# Altium integrated library Altium_Coil_Inductor.IntLib: 108 symbols (part 1 of 3)
Pins are listed as number, name and electrical type; pins without a type are passive.

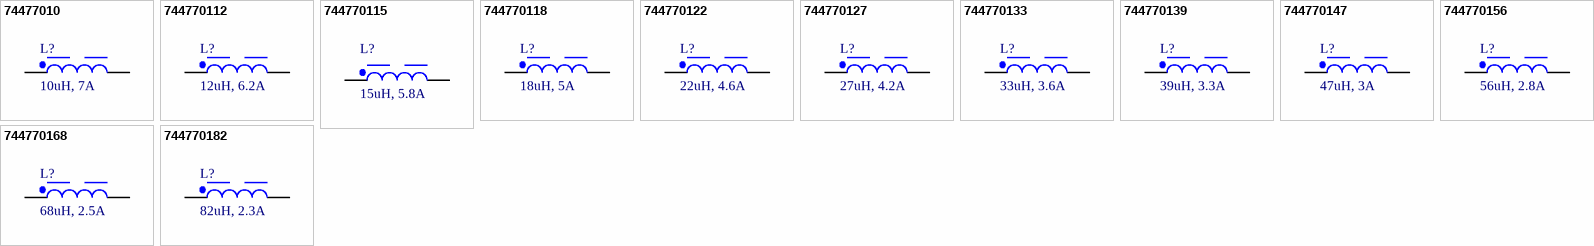
[diagram p0: symbols 74477010 to 744770182]

## 74477010
designator L?, comment 10uH, 7A
WE-PD SMT Power Inductor, size 1280, 10uH, 7A, 20mOhm; Manufacturer Part Number: 74477010; Manufacturer: Wurth Elektronik; Case/Size Code: 1280; DC Resistance: 15mOhm; Saturation Current: 7.5A; Self Resonant Frequency: 18MHz; Type: Standard; Category: Power Inductors; Match Code: WE-PD; ComponentLink1Description: Datasheet; ComponentLink1URL: https://www.we-online.com/redexpert/spec/74477010?ad; Mount: Surface Mount; Operating Temperature Max: 125°C; Operating Temperature Min: -40°C; Packaging: Tape and Reel; Length: 12mm; Width: 12mm; Height: 8mm; DC Resistance Max: 20mOhm; Inductance: 10uH; Rated Current: 7A; Supplier 1 URL: https://www.mouser.com/ProductDetail/Wurth-Elektronik/74477010?qs=E%2F%2FhvbtCqpN9eEwYoxClfg%3D%3D&utm_source=mouser-refine-download&utm_medium=file&utm_campaign=74477010&utm_content=Wurth-Elektronik; Supplier 2 URL: https://www.digikey.com/en/products/detail/w%C3%BCrth-elektronik/74477010/1638628; Supplier 3 URL: https://www.thegioiic.com/cdrh127-cuon-cam-dan-smd-1280-100-10uh-7-8a; Value: 10uH, 7A; LCSC Part #: N/A; Supplier 1: Mouser; Supplier 1 Part Number: 710-74477010; Supplier 2: Digi-Key; Supplier 2 Part Number: 732-1223-2-ND; Supplier 3: thegioiic; Supplier 3 Part Number: N/A
footprint WE-PD_1280
simulation model 1280_74477010_10u
pins: 1, 2

## 744770112
designator L?, comment 12uH, 6.2A
WE-PD SMT Power Inductor, size 1280, 12uH, 6.2A, 21mOhm; Manufacturer Part Number: 744770112; Manufacturer: Wurth Elektronik; Case/Size Code: 1280; DC Resistance: 16mOhm; Saturation Current: 6.5A; Self Resonant Frequency: 16MHz; Type: Standard; Category: Power Inductors; Match Code: WE-PD; ComponentLink1Description: Datasheet; ComponentLink1URL: https://www.we-online.com/redexpert/spec/744770112?ad; Mount: Surface Mount; Operating Temperature Max: 125°C; Operating Temperature Min: -40°C; Packaging: Tape and Reel; Length: 12mm; Width: 12mm; Height: 8mm; DC Resistance Max: 21mOhm; Inductance: 12uH; Rated Current: 6.2A; Supplier 1 URL: https://www.mouser.com/ProductDetail/Wurth-Elektronik/744770112?qs=E%2F%2FhvbtCqpOJhaQEzaGKow%3D%3D&utm_source=mouser-refine-download&utm_medium=file&utm_campaign=744770112&utm_content=Wurth-Elektronik; Supplier 2 URL: https://www.digikey.com/en/products/detail/w%C3%BCrth-elektronik/744770112/1638629; Supplier 3 URL: https://www.thegioiic.com/cdrh127-cuon-cam-dan-smd-1280-120-12uh-7-5a; Value: 12uH, 6.2A; LCSC Part #: N/A; Supplier 1: Mouser; Supplier 1 Part Number: 710-744770112; Supplier 2: Digi-Key; Supplier 2 Part Number: 732-1224-2-ND; Supplier 3: thegioiic; Supplier 3 Part Number: N/A
footprint WE-PD_1280
simulation model 1280_744770112_12u
pins: 1, 2

## 744770115
designator L?, comment 15uH, 5.8A
WE-PD SMT Power Inductor, size 1280, 15uH, 5.8A, 23mOhm; Manufacturer Part Number: 744770115; Manufacturer: Wurth Elektronik; Case/Size Code: 1280; DC Resistance: 18mOhm; Saturation Current: 6A; Self Resonant Frequency: 14.5MHz; Type: Standard; Category: Power Inductors; Match Code: WE-PD; ComponentLink1Description: Datasheet; ComponentLink1URL: https://www.we-online.com/redexpert/spec/744770115?ad; Mount: Surface Mount; Operating Temperature Max: 125°C; Operating Temperature Min: -40°C; Packaging: Tape and Reel; Length: 12mm; Width: 12mm; Height: 8mm; DC Resistance Max: 23mOhm; Inductance: 15uH; Rated Current: 5.8A; Supplier 1 URL: https://www.mouser.com/ProductDetail/Wurth-Elektronik/744770115?qs=E%2F%2FhvbtCqpM85OsQhMxYHw%3D%3D&utm_source=mouser-refine-download&utm_medium=file&utm_campaign=744770115&utm_content=Wurth-Elektronik; Supplier 2 URL: https://www.digikey.com/en/products/detail/w%C3%BCrth-elektronik/744770115/1638630; Supplier 3 URL: https://www.thegioiic.com/cdrh127-cuon-cam-dan-smd-1280-150-15uh-7-1a; Value: 15uH, 5.8A; LCSC Part #: N/A; Supplier 1: Mouser; Supplier 1 Part Number: 710-744770115; Supplier 2: Digi-Key; Supplier 2 Part Number: 732-1225-2-ND; Supplier 3: thegioiic; Supplier 3 Part Number: N/A
footprint WE-PD_1280
simulation model 1280_744770115_15u
pins: 1, 2

## 744770118
designator L?, comment 18uH, 5A
WE-PD SMT Power Inductor, size 1280, 18uH, 5A, 32mOhm; Manufacturer Part Number: 744770118; Manufacturer: Wurth Elektronik; Case/Size Code: 1280; DC Resistance: 25mOhm; Saturation Current: 5.4A; Self Resonant Frequency: 13.2MHz; Type: Standard; Category: Power Inductors; Match Code: WE-PD; ComponentLink1Description: Datasheet; ComponentLink1URL: https://www.we-online.com/redexpert/spec/744770118?ad; Mount: Surface Mount; Operating Temperature Max: 125°C; Operating Temperature Min: -40°C; Packaging: Tape and Reel; Length: 12mm; Width: 12mm; Height: 8mm; DC Resistance Max: 32mOhm; Inductance: 18uH; Rated Current: 5A; Supplier 1 URL: https://www.mouser.com/ProductDetail/Wurth-Elektronik/744770118?qs=E%2F%2FhvbtCqpMjsE8jVdqxTg%3D%3D&utm_source=mouser-refine-download&utm_medium=file&utm_campaign=744770118&utm_content=Wurth-Elektronik; Supplier 2 URL: https://www.digikey.com/en/products/detail/w%C3%BCrth-elektronik/744770118/1638631; Supplier 3 URL: https://www.thegioiic.com/cdrh127-cuon-cam-dan-smd-1280-180-18uh-6-6a; Value: 18uH, 5A; LCSC Part #: N/A; Supplier 1: Mouser; Supplier 1 Part Number: 710-744770118; Supplier 2: Digi-Key; Supplier 2 Part Number: 732-1226-2-ND; Supplier 3: thegioiic; Supplier 3 Part Number: N/A
footprint WE-PD_1280
simulation model 1280_744770118_18u
pins: 1, 2

## 744770122
designator L?, comment 22uH, 4.6A
WE-PD SMT Power Inductor, size 1280, 22uH, 4.6A, 35mOhm; Manufacturer Part Number: 744770122; Manufacturer: Wurth Elektronik; Case/Size Code: 1280; DC Resistance: 29mOhm; Saturation Current: 5A; Self Resonant Frequency: 12MHz; Type: Standard; Category: Power Inductors; Match Code: WE-PD; ComponentLink1Description: Datasheet; ComponentLink1URL: https://www.we-online.com/redexpert/spec/744770122?ad; Mount: Surface Mount; Operating Temperature Max: 125°C; Operating Temperature Min: -40°C; Packaging: Tape and Reel; Length: 12mm; Width: 12mm; Height: 8mm; DC Resistance Max: 35mOhm; Inductance: 22uH; Rated Current: 4.6A; Supplier 1 URL: https://www.mouser.com/ProductDetail/Wurth-Elektronik/744770122?qs=E%2F%2FhvbtCqpMCCo%252BOKEdKOA%3D%3D&utm_source=mouser-refine-download&utm_medium=file&utm_campaign=744770122&utm_content=Wurth-Elektronik; Supplier 2 URL: https://www.digikey.com/en/products/detail/w%C3%BCrth-elektronik/744770122/1638632; Supplier 3 URL: https://www.thegioiic.com/cdrh127-cuon-cam-dan-smd-1280-220-22uh-6-3a; Value: 22uH, 4.6A; LCSC Part #: N/A; Supplier 1: Mouser; Supplier 1 Part Number: 710-744770122; Supplier 2: Digi-Key; Supplier 2 Part Number: 732-1227-2-ND; Supplier 3: thegioiic; Supplier 3 Part Number: N/A
footprint WE-PD_1280
simulation model 1280_744770122_22u
pins: 1, 2

## 744770127
designator L?, comment 27uH, 4.2A
WE-PD SMT Power Inductor, size 1280, 27uH, 4.2A, 38mOhm; Manufacturer Part Number: 744770127; Manufacturer: Wurth Elektronik; Case/Size Code: 1280; DC Resistance: 31mOhm; Saturation Current: 4.3A; Self Resonant Frequency: 10MHz; Type: Standard; Category: Power Inductors; Match Code: WE-PD; ComponentLink1Description: Datasheet; ComponentLink1URL: https://www.we-online.com/redexpert/spec/744770127?ad; Mount: Surface Mount; Operating Temperature Max: 125°C; Operating Temperature Min: -40°C; Packaging: Tape and Reel; Length: 12mm; Width: 12mm; Height: 8mm; DC Resistance Max: 38mOhm; Inductance: 27uH; Rated Current: 4.2A; Supplier 1 URL: https://www.mouser.com/ProductDetail/Wurth-Elektronik/744770127?qs=E%2F%2FhvbtCqpO8LDc2teDyXQ%3D%3D&utm_source=mouser-refine-download&utm_medium=file&utm_campaign=744770127&utm_content=Wurth-Elektronik; Supplier 2 URL: https://www.digikey.com/en/products/detail/w%C3%BCrth-elektronik/744770127/1638633; Supplier 3 URL: https://www.thegioiic.com/cdrh127-cuon-cam-dan-smd-1280-270-27uh-5-7a; Value: 27uH, 4.2A; LCSC Part #: N/A; Supplier 1: Mouser; Supplier 1 Part Number: 710-744770127; Supplier 2: Digi-Key; Supplier 2 Part Number: 732-1228-2-ND; Supplier 3: thegioiic; Supplier 3 Part Number: N/A
footprint WE-PD_1280
simulation model 1280_744770127_27u
pins: 1, 2

## 744770133
designator L?, comment 33uH, 3.6A
WE-PD SMT Power Inductor, size 1280, 33uH, 3.6A, 53mOhm; Manufacturer Part Number: 744770133; Manufacturer: Wurth Elektronik; Case/Size Code: 1280; DC Resistance: 44mOhm; Saturation Current: 3.9A; Self Resonant Frequency: 8.5MHz; Type: Standard; Category: Power Inductors; Match Code: WE-PD; ComponentLink1Description: Datasheet; ComponentLink1URL: https://www.we-online.com/redexpert/spec/744770133?ad; Mount: Surface Mount; Operating Temperature Max: 125°C; Operating Temperature Min: -40°C; Packaging: Tape and Reel; Length: 12mm; Width: 12mm; Height: 8mm; DC Resistance Max: 53mOhm; Inductance: 33uH; Rated Current: 3.6A; Supplier 1 URL: https://www.mouser.com/ProductDetail/Wurth-Elektronik/744770133?qs=E%2F%2FhvbtCqpPKkGJl8TxFXw%3D%3D&utm_source=mouser-refine-download&utm_medium=file&utm_campaign=744770133&utm_content=Wurth-Elektronik; Supplier 2 URL: https://www.digikey.com/en/products/detail/w%C3%BCrth-elektronik/744770133/1638634; Supplier 3 URL: https://www.thegioiic.com/cdrh127-cuon-cam-dan-smd-1280-330-33uh-4-2a; Value: 33uH, 3.6A; LCSC Part #: C2924828; Supplier 1: Mouser; Supplier 1 Part Number: 710-744770133; Supplier 2: Digi-Key; Supplier 2 Part Number: 732-1229-2-ND; Supplier 3: thegioiic; Supplier 3 Part Number: N/A
footprint WE-PD_1280
simulation model 1280_744770133_33u
pins: 1, 2

## 744770139
designator L?, comment 39uH, 3.3A
WE-PD SMT Power Inductor, size 1280, 39uH, 3.3A, 56mOhm; Manufacturer Part Number: 744770139; Manufacturer: Wurth Elektronik; Case/Size Code: 1280; DC Resistance: 47mOhm; Saturation Current: 3.6A; Self Resonant Frequency: 8.2MHz; Type: Standard; Category: Power Inductors; Match Code: WE-PD; ComponentLink1Description: Datasheet; ComponentLink1URL: https://www.we-online.com/redexpert/spec/744770139?ad; Mount: Surface Mount; Operating Temperature Max: 125°C; Operating Temperature Min: -40°C; Packaging: Tape and Reel; Length: 12mm; Width: 12mm; Height: 8mm; DC Resistance Max: 56mOhm; Inductance: 39uH; Rated Current: 3.3A; Supplier 1 URL: https://www.mouser.com/ProductDetail/Wurth-Elektronik/744770139?qs=E%2F%2FhvbtCqpNi16tK84wUHQ%3D%3D&utm_source=mouser-refine-download&utm_medium=file&utm_campaign=744770139&utm_content=Wurth-Elektronik; Supplier 2 URL: https://www.digikey.com/en/products/detail/w%C3%BCrth-elektronik/744770139/1638635; Supplier 3 URL: https://www.thegioiic.com/cdrh127-cuon-cam-dan-smd-1280-390-39uh-4-5a; Value: 39uH, 3.3A; LCSC Part #: N/A; Supplier 1: Mouser; Supplier 1 Part Number: 710-744770139; Supplier 2: Digi-Key; Supplier 2 Part Number: 732-1230-2-ND; Supplier 3: thegioiic; Supplier 3 Part Number: N/A
footprint WE-PD_1280
simulation model 1280_744770139_39u
pins: 1, 2

## 744770147
designator L?, comment 47uH, 3A
WE-PD SMT Power Inductor, size 1280, 47uH, 3A, 64mOhm; Manufacturer Part Number: 744770147; Manufacturer: Wurth Elektronik; Case/Size Code: 1280; DC Resistance: 53mOhm; Saturation Current: 3.3A; Self Resonant Frequency: 7.9MHz; Type: Standard; Category: Power Inductors; Match Code: WE-PD; ComponentLink1Description: Datasheet; ComponentLink1URL: https://www.we-online.com/redexpert/spec/744770147?ad; Mount: Surface Mount; Operating Temperature Max: 125°C; Operating Temperature Min: -40°C; Packaging: Tape and Reel; Length: 12mm; Width: 12mm; Height: 8mm; DC Resistance Max: 64mOhm; Inductance: 47uH; Rated Current: 3A; Supplier 1 URL: https://www.mouser.com/ProductDetail/Wurth-Elektronik/744770147?qs=E%2F%2FhvbtCqpOiGvqyq%252BELzg%3D%3D&utm_source=mouser-refine-download&utm_medium=file&utm_campaign=744770147&utm_content=Wurth-Elektronik; Supplier 2 URL: https://www.digikey.com/en/products/detail/w%C3%BCrth-elektronik/744770147/1638636; Supplier 3 URL: https://www.thegioiic.com/cdrh127-cuon-cam-dan-smd-1280-470-47uh-3-25a; Value: 47uH, 3A; LCSC Part #: N/A; Supplier 1: Mouser; Supplier 1 Part Number: 710-744770147; Supplier 2: Digi-Key; Supplier 2 Part Number: 732-1231-2-ND; Supplier 3: thegioiic; Supplier 3 Part Number: N/A
footprint WE-PD_1280
simulation model 1280_744770147_47u
pins: 1, 2

## 744770156
designator L?, comment 56uH, 2.8A
WE-PD SMT Power Inductor, size 1280, 56uH, 2.8A, 71mOhm; Manufacturer Part Number: 744770156; Manufacturer: Wurth Elektronik; Case/Size Code: 1280; DC Resistance: 59mOhm; Saturation Current: 3A; Self Resonant Frequency: 7.1MHz; Type: Standard; Category: Power Inductors; Match Code: WE-PD; ComponentLink1Description: Datasheet; ComponentLink1URL: https://www.we-online.com/redexpert/spec/744770156?ad; Mount: Surface Mount; Operating Temperature Max: 125°C; Operating Temperature Min: -40°C; Packaging: Tape and Reel; Length: 12mm; Width: 12mm; Height: 8mm; DC Resistance Max: 71mOhm; Inductance: 56uH; Rated Current: 2.8A; Supplier 1 URL: https://www.mouser.com/ProductDetail/Wurth-Elektronik/744770156?qs=E%2F%2FhvbtCqpNroL9ZoOQUWg%3D%3D&utm_source=mouser-refine-download&utm_medium=file&utm_campaign=744770156&utm_content=Wurth-Elektronik; Supplier 2 URL: https://www.digikey.com/en/products/detail/w%C3%BCrth-elektronik/744770156/1638637; Supplier 3 URL: https://www.thegioiic.com/cdrh127-cuon-cam-dan-smd-1280-560-56uh-3-6a; Value: 56uH, 2.8A; LCSC Part #: N/A; Supplier 1: Mouser; Supplier 1 Part Number: 710-744770156; Supplier 2: Digi-Key; Supplier 2 Part Number: 732-1232-2-ND; Supplier 3: thegioiic; Supplier 3 Part Number: N/A
footprint WE-PD_1280
simulation model 1280_744770156_56u
pins: 1, 2

## 744770168
designator L?, comment 68uH, 2.5A
WE-PD SMT Power Inductor, size 1280, 68uH, 2.5A, 90mOhm; Manufacturer Part Number: 744770168; Manufacturer: Wurth Elektronik; Case/Size Code: 1280; DC Resistance: 76mOhm; Saturation Current: 2.7A; Self Resonant Frequency: 6.4MHz; Type: Standard; Category: Power Inductors; Match Code: WE-PD; ComponentLink1Description: Datasheet; ComponentLink1URL: https://www.we-online.com/redexpert/spec/744770168?ad; Mount: Surface Mount; Operating Temperature Max: 125°C; Operating Temperature Min: -40°C; Packaging: Tape and Reel; Length: 12mm; Width: 12mm; Height: 8mm; DC Resistance Max: 90mOhm; Inductance: 68uH; Rated Current: 2.5A; Supplier 1 URL: https://www.mouser.com/ProductDetail/Wurth-Elektronik/744770168?qs=E%2F%2FhvbtCqpPwpKkBv2vMpA%3D%3D&utm_source=mouser-refine-download&utm_medium=file&utm_campaign=744770168&utm_content=Wurth-Elektronik; Supplier 2 URL: https://www.digikey.com/en/products/detail/w%C3%BCrth-elektronik/744770168/1638638; Supplier 3 URL: https://www.thegioiic.com/cdrh127-cuon-cam-dan-smd-1280-680-68uh-3-2a; Value: 68uH, 2.5A; LCSC Part #: N/A; Supplier 1: Mouser; Supplier 1 Part Number: 710-744770168; Supplier 2: Digi-Key; Supplier 2 Part Number: 732-1233-2-ND; Supplier 3: thegioiic; Supplier 3 Part Number: N/A
footprint WE-PD_1280
simulation model 1280_744770168_68u
pins: 1, 2

## 744770182
designator L?, comment 82uH, 2.3A
WE-PD SMT Power Inductor, size 1280, 82uH, 2.3A, 105mOhm; Manufacturer Part Number: 744770182; Manufacturer: Wurth Elektronik; Case/Size Code: 1280; DC Resistance: 86mOhm; Saturation Current: 2.5A; Self Resonant Frequency: 3.5MHz; Type: Standard; Category: Power Inductors; Match Code: WE-PD; ComponentLink1Description: Datasheet; ComponentLink1URL: https://www.we-online.com/redexpert/spec/744770182?ad; Mount: Surface Mount; Operating Temperature Max: 125°C; Operating Temperature Min: -40°C; Packaging: Tape and Reel; Length: 12mm; Width: 12mm; Height: 8mm; DC Resistance Max: 105mOhm; Inductance: 82uH; Rated Current: 2.3A; Supplier 1 URL: https://www.mouser.com/ProductDetail/Wurth-Elektronik/744770182?qs=E%2F%2FhvbtCqpMetle%2FMtY%2FbA%3D%3D&utm_source=mouser-refine-download&utm_medium=file&utm_campaign=744770182&utm_content=Wurth-Elektronik; Supplier 2 URL: https://www.digikey.com/en/products/detail/w%C3%BCrth-elektronik/744770182/1638639; Supplier 3 URL: https://www.thegioiic.com/cdrh127-cuon-cam-dan-smd-1280-820-82uh-2-95a; Value: 82uH, 2.3A; LCSC Part #: N/A; Supplier 1: Mouser; Supplier 1 Part Number: 710-744770182; Supplier 2: Digi-Key; Supplier 2 Part Number: 732-1234-2-ND; Supplier 3: thegioiic; Supplier 3 Part Number: N/A
footprint WE-PD_1280
simulation model 1280_744770182_82u
pins: 1, 2


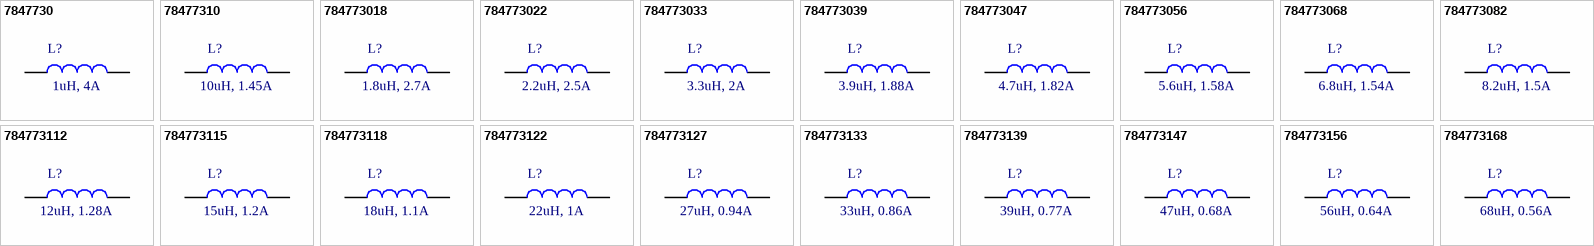
[diagram p1: symbols 7847730 to 784773168]

## 7847730
designator L?, comment 1uH, 4A
WE-PD2A SMT Power Inductor, size 4532, 1uH, 4A; Manufacturer Part Number: 7847730; Manufacturer: Wurth Elektronik; DC Resistance max.: 0.049Ohm; Saturation Current: 5.72A; Self Resonant Frequency: 110MHz; DC Resistance typ.: 0.014Ohm; Rated Voltage: 80VDC; ComponentLink1Description: Datasheet; ComponentLink1URL: https://www.we-online.com/catalog/datasheet/7847730.pdf; Published Date: May 2020; Rated Current: 4A; Inductance: 1uH; Operating Temperature: -40 to +125degC; Packaging: Tape and Reel; Size: 4532; Supplier 2 URL: https://www.digikey.com/en/products/detail/w%C3%BCrth-elektronik/7847730/5168772; Supplier 1 URL: https://www.mouser.vn/ProductDetail/Wurth-Elektronik/7847730?qs=sBf%2Fb4nBSlde5F9DDjxYmQ%3D%3D; Supplier 3 URL: https://www.thegioiic.com/cuon-cam-dan-smd-cd43-4532-1r0-1uh-2-7a; Value: 1uH, 4A; LCSC Part #: N/A; Supplier 1: Mouser; Supplier 1 Part Number: 710-7847730; Supplier 2: Digi-Key; Supplier 2 Part Number: 732-6803-2-ND; Supplier 3: thegioiic; Supplier 3 Part Number: N/A; Mount: SMD/SMT
footprint WE-PD2A_4532
pins: 1, 2

## 78477310
designator L?, comment 10uH, 1.45A
WE-PD2A SMT Power Inductor, size 4532, 10uH, 1.45A; Manufacturer Part Number: 78477310; Manufacturer: Wurth Elektronik; DC Resistance max.: 0.182Ohm; Saturation Current: 1.74A; Self Resonant Frequency: 30MHz; DC Resistance typ.: 0.118Ohm; Rated Voltage: 80VDC; ComponentLink1Description: Datasheet; ComponentLink1URL: https://www.we-online.com/catalog/datasheet/78477310.pdf; Published Date: May 2020; Rated Current: 1.45A; Inductance: 10uH; Operating Temperature: -40 to +125degC; Packaging: Tape and Reel; Size: 4532; Supplier 2 URL: https://www.digikey.com/en/products/detail/w%C3%BCrth-elektronik/78477310/5168778?s=N4IgTCBcDaIOwA4Asc4GYCMAGEBdAvkA; Supplier 1 URL: https://www.mouser.vn/ProductDetail/Wurth-Elektronik/78477310?qs=sBf%2Fb4nBSldyYvbSID7ftA%3D%3D; Supplier 3 URL: https://www.thegioiic.com/cuon-cam-dan-smd-cd43-4532-100-10uh-1-04a; Value: 10uH, 1.45A; LCSC Part #: N/A; Supplier 1: Mouser; Supplier 1 Part Number: 710-78477310; Supplier 2: Digi-Key; Supplier 2 Part Number: 732-6812-2-ND; Supplier 3: thegioiic; Supplier 3 Part Number: N/A; Mount: SMD/SMT
footprint WE-PD2A_4532
pins: 1, 2

## 784773018
designator L?, comment 1.8uH, 2.7A
WE-PD2A SMT Power Inductor, size 4532, 1.8uH, 2.7A; Manufacturer Part Number: 784773018; Manufacturer: Wurth Elektronik; DC Resistance max.: 0.064Ohm; Saturation Current: 3.6A; Self Resonant Frequency: 85MHz; DC Resistance typ.: 0.028Ohm; Rated Voltage: 80VDC; ComponentLink1Description: Datasheet; ComponentLink1URL: https://www.we-online.com/catalog/datasheet/784773018.pdf; Published Date: May 2020; Rated Current: 2.7A; Inductance: 1.8uH; Operating Temperature: -40 to +125degC; Packaging: Tape and Reel; Size: 4532; Supplier 2 URL: https://www.digikey.com/en/products/detail/w%C3%BCrth-elektronik/784773018/5168841?s=N4IgTCBcDaIOwA4Asc4GYAMBGBIC6AvkA; Supplier 1 URL: https://www.mouser.vn/ProductDetail/Wurth-Elektronik/784773018?qs=sBf%2Fb4nBSleQ5H1IVXBHSg%3D%3D; Supplier 3 URL: N/A; Value: 1.8uH, 2.7A; LCSC Part #: N/A; Supplier 1: Mouser; Supplier 1 Part Number: 710-784773018; Supplier 2: Digi-Key; Supplier 2 Part Number: 732-6804-2-ND; Supplier 3: thegioiic; Supplier 3 Part Number: N/A; Mount: SMD/SMT
footprint WE-PD2A_4532
pins: 1, 2

## 784773022
designator L?, comment 2.2uH, 2.5A
WE-PD2A SMT Power Inductor, size 4532, 2.2uH, 2.5A; Manufacturer Part Number: 784773022; Manufacturer: Wurth Elektronik; DC Resistance max.: 0.071Ohm; Saturation Current: 3.38A; Self Resonant Frequency: 74MHz; DC Resistance typ.: 0.034Ohm; Rated Voltage: 80VDC; ComponentLink1Description: Datasheet; ComponentLink1URL: https://www.we-online.com/catalog/datasheet/784773022.pdf; Published Date: May 2020; Rated Current: 2.5A; Inductance: 2.2uH; Operating Temperature: -40 to +125degC; Packaging: Tape and Reel; Size: 4532; Supplier 2 URL: https://www.digikey.com/en/products/detail/w%C3%BCrth-elektronik/784773022/5168842?s=N4IgTCBcDaIOwA4Asc4GYAMYIF0C%2BQA; Supplier 1 URL: https://www.mouser.vn/ProductDetail/Wurth-Elektronik/784773022?qs=sBf%2Fb4nBSlcBBrrMBQmuMg%3D%3D; Supplier 3 URL: https://www.thegioiic.com/cuon-cam-dan-smd-cd43-4532-2r2-2-2uh-2-25a; Value: 2.2uH, 2.5A; LCSC Part #: N/A; Supplier 1: Mouser; Supplier 1 Part Number: 710-784773022; Supplier 2: Digi-Key; Supplier 2 Part Number: 732-6805-2-ND; Supplier 3: thegioiic; Supplier 3 Part Number: N/A; Mount: SMD/SMT
footprint WE-PD2A_4532
pins: 1, 2

## 784773033
designator L?, comment 3.3uH, 2A
WE-PD2A SMT Power Inductor, size 4532, 3.3uH, 2A; Manufacturer Part Number: 784773033; Manufacturer: Wurth Elektronik; DC Resistance max.: 0.086Ohm; Saturation Current: 2.88A; Self Resonant Frequency: 55MHz; DC Resistance typ.: 0.041Ohm; Rated Voltage: 80VDC; ComponentLink1Description: Datasheet; ComponentLink1URL: https://www.we-online.com/catalog/datasheet/784773033.pdf; Published Date: May 2020; Rated Current: 2A; Inductance: 3.3uH; Operating Temperature: -40 to +125degC; Packaging: Tape and Reel; Size: 4532; Supplier 2 URL: https://www.digikey.com/en/products/detail/w%C3%BCrth-elektronik/784773033/5168843?s=N4IgTCBcDaIOwA4Asc4GYAMa0gLoF8g; Supplier 1 URL: https://www.mouser.vn/ProductDetail/Wurth-Elektronik/784773033?qs=sBf%2Fb4nBSlcLzNIjutVkew%3D%3D; Supplier 3 URL: https://www.thegioiic.com/cuon-cam-dan-smd-cd43-4532-3r3-3-3uh-2a; Value: 3.3uH, 2A; LCSC Part #: N/A; Supplier 1: Mouser; Supplier 1 Part Number: 710-784773033; Supplier 2: Digi-Key; Supplier 2 Part Number: 732-6806-2-ND; Supplier 3: thegioiic; Supplier 3 Part Number: N/A; Mount: SMD/SMT
footprint WE-PD2A_4532
pins: 1, 2

## 784773039
designator L?, comment 3.9uH, 1.88A
WE-PD2A SMT Power Inductor, size 4532, 3.9uH, 1.88A; Manufacturer Part Number: 784773039; Manufacturer: Wurth Elektronik; DC Resistance max.: 0.094Ohm; Saturation Current: 2.57A; Self Resonant Frequency: 50MHz; DC Resistance typ.: 0.054Ohm; Rated Voltage: 80VDC; ComponentLink1Description: Datasheet; ComponentLink1URL: https://www.we-online.com/catalog/datasheet/784773039.pdf; Published Date: May 2020; Rated Current: 1.88A; Inductance: 3.9uH; Operating Temperature: -40 to +125degC; Packaging: Tape and Reel; Size: 4532; Supplier 2 URL: https://www.digikey.com/en/products/detail/w%C3%BCrth-elektronik/784773039/5168844?s=N4IgTCBcDaIOwA4Asc4GYAMaCcIC6AvkA; Supplier 1 URL: https://www.mouser.vn/ProductDetail/Wurth-Elektronik/784773039?qs=sBf%2Fb4nBSlfKtooI5th99Q%3D%3D; Supplier 3 URL: N/A; Value: 3.9uH, 1.88A; LCSC Part #: N/A; Supplier 1: Mouser; Supplier 1 Part Number: 710-784773039; Supplier 2: Digi-Key; Supplier 2 Part Number: 732-6807-2-ND; Supplier 3: thegioiic; Supplier 3 Part Number: N/A; Mount: SMD/SMT
footprint WE-PD2A_4532
pins: 1, 2

## 784773047
designator L?, comment 4.7uH, 1.82A
WE-PD2A SMT Power Inductor, size 4532, 4.7uH, 1.82A; Manufacturer Part Number: 784773047; Manufacturer: Wurth Elektronik; DC Resistance max.: 0.11Ohm; Saturation Current: 2.46A; Self Resonant Frequency: 45MHz; DC Resistance typ.: 0.059Ohm; Rated Voltage: 80VDC; ComponentLink1Description: Datasheet; ComponentLink1URL: https://www.we-online.com/catalog/datasheet/784773047.pdf; Published Date: May 2020; Rated Current: 1.82A; Inductance: 4.7uH; Operating Temperature: -40 to +125degC; Packaging: Tape and Reel; Size: 4532; Supplier 2 URL: https://www.digikey.com/en/products/detail/w%C3%BCrth-elektronik/784773047/5168845?s=N4IgTCBcDaIOwA4Asc4GYAMKQF0C%2BQA; Supplier 1 URL: https://www.mouser.vn/ProductDetail/Wurth-Elektronik/784773047?qs=sBf%2Fb4nBSlexMu59FZ%252B%2F%2Fw%3D%3D; Supplier 3 URL: https://www.thegioiic.com/cuon-cam-dan-smd-cd43-4532-4r7-4-7uh-1-62a; Value: 4.7uH, 1.82A; LCSC Part #: N/A; Supplier 1: Mouser; Supplier 1 Part Number: 710-784773047; Supplier 2: Digi-Key; Supplier 2 Part Number: 732-6808-2-ND; Supplier 3: thegioiic; Supplier 3 Part Number: N/A; Mount: SMD/SMT
footprint WE-PD2A_4532
pins: 1, 2

## 784773056
designator L?, comment 5.6uH, 1.58A
WE-PD2A SMT Power Inductor, size 4532, 5.6uH, 1.58A; Manufacturer Part Number: 784773056; Manufacturer: Wurth Elektronik; DC Resistance max.: 0.126Ohm; Saturation Current: 2.43A; Self Resonant Frequency: 40MHz; DC Resistance typ.: 0.069Ohm; Rated Voltage: 80VDC; ComponentLink1Description: Datasheet; ComponentLink1URL: https://www.we-online.com/catalog/datasheet/784773056.pdf; Published Date: May 2020; Rated Current: 1.58A; Inductance: 5.6uH; Operating Temperature: -40 to +125degC; Packaging: Tape and Reel; Size: 4532; Supplier 2 URL: https://www.digikey.com/en/products/detail/w%C3%BCrth-elektronik/784773056/5168846?s=N4IgTCBcDaIOwA4Asc4GYAMBWAbCAugL5A; Supplier 1 URL: https://www.mouser.vn/ProductDetail/Wurth-Elektronik/784773056?qs=sBf%2Fb4nBSlc8abp2k0EE6g%3D%3D; Supplier 3 URL: N/A; Value: 5.6uH, 1.58A; LCSC Part #: N/A; Supplier 1: Mouser; Supplier 1 Part Number: 710-784773056; Supplier 2: Digi-Key; Supplier 2 Part Number: 732-6809-2-ND; Supplier 3: thegioiic; Supplier 3 Part Number: N/A; Mount: SMD/SMT
footprint WE-PD2A_4532
pins: 1, 2

## 784773068
designator L?, comment 6.8uH, 1.54A
WE-PD2A SMT Power Inductor, size 4532, 6.8uH, 1.54A; Manufacturer Part Number: 784773068; Manufacturer: Wurth Elektronik; DC Resistance max.: 0.131Ohm; Saturation Current: 2.1A; Self Resonant Frequency: 35MHz; DC Resistance typ.: 0.076Ohm; Rated Voltage: 80VDC; ComponentLink1Description: Datasheet; ComponentLink1URL: https://www.we-online.com/catalog/datasheet/784773068.pdf; Published Date: May 2020; Rated Current: 1.54A; Inductance: 6.8uH; Operating Temperature: -40 to +125degC; Packaging: Tape and Reel; Size: 4532; Supplier 2 URL: https://www.digikey.com/en/products/detail/w%C3%BCrth-elektronik/784773068/5168847?s=N4IgTCBcDaIOwA4Asc4GYAMA2BIC6AvkA; Supplier 1 URL: https://www.mouser.vn/ProductDetail/Wurth-Elektronik/784773068?qs=sBf%2Fb4nBSlcnXmzECz8Epw%3D%3D; Supplier 3 URL: https://www.thegioiic.com/cuon-cam-dan-smd-cd43-4532-6r8-6-8uh-1-43a; Value: 6.8uH, 1.54A; LCSC Part #: N/A; Supplier 1: Mouser; Supplier 1 Part Number: 710-784773068; Supplier 2: Digi-Key; Supplier 2 Part Number: 732-6810-2-ND; Supplier 3: thegioiic; Supplier 3 Part Number: N/A; Mount: SMD/SMT
footprint WE-PD2A_4532
pins: 1, 2

## 784773082
designator L?, comment 8.2uH, 1.5A
WE-PD2A SMT Power Inductor, size 4532, 8.2uH, 1.5A; Manufacturer Part Number: 784773082; Manufacturer: Wurth Elektronik; DC Resistance max.: 0.146Ohm; Saturation Current: 1.8A; Self Resonant Frequency: 30MHz; DC Resistance typ.: 0.116Ohm; Rated Voltage: 80VDC; ComponentLink1Description: Datasheet; ComponentLink1URL: https://www.we-online.com/catalog/datasheet/784773082.pdf; Published Date: May 2020; Rated Current: 1.5A; Inductance: 8.2uH; Operating Temperature: -40 to +125degC; Packaging: Tape and Reel; Size: 4532; Supplier 2 URL: https://www.digikey.com/en/products/detail/w%C3%BCrth-elektronik/784773082/5168848?s=N4IgTCBcDaIOwA4Asc4GYAMCIF0C%2BQA; Supplier 1 URL: https://www.mouser.vn/ProductDetail/Wurth-Elektronik/784773082?qs=sBf%2Fb4nBSlcCjuVMP%252BH0Qg%3D%3D; Supplier 3 URL: N/A; Value: 8.2uH, 1.5A; LCSC Part #: N/A; Supplier 1: Mouser; Supplier 1 Part Number: 710-784773082; Supplier 2: Digi-Key; Supplier 2 Part Number: 732-6811-2-ND; Supplier 3: thegioiic; Supplier 3 Part Number: N/A; Mount: SMD/SMT
footprint WE-PD2A_4532
pins: 1, 2

## 784773112
designator L?, comment 12uH, 1.28A
WE-PD2A SMT Power Inductor, size 4532, 12uH, 1.28A; Manufacturer Part Number: 784773112; Manufacturer: Wurth Elektronik; DC Resistance max.: 0.21Ohm; Saturation Current: 1.62A; Self Resonant Frequency: 30MHz; DC Resistance typ.: 0.156Ohm; Rated Voltage: 80VDC; ComponentLink1Description: Datasheet; ComponentLink1URL: https://www.we-online.com/catalog/datasheet/784773112.pdf; Published Date: May 2020; Rated Current: 1.28A; Inductance: 12uH; Operating Temperature: -40 to +125degC; Packaging: Tape and Reel; Size: 4532; Supplier 2 URL: https://www.digikey.com/en/products/detail/w%C3%BCrth-elektronik/784773112/5168849?s=N4IgTCBcDaIOwA4Asc4GYCMGIF0C%2BQA; Supplier 1 URL: https://www.mouser.vn/ProductDetail/Wurth-Elektronik/784773112?qs=sBf%2Fb4nBSlcUWypdFvrQSg%3D%3D; Supplier 3 URL: N/A; Value: 12uH, 1.28A; LCSC Part #: N/A; Supplier 1: Mouser; Supplier 1 Part Number: 710-784773112; Supplier 2: Digi-Key; Supplier 2 Part Number: 732-6813-2-ND; Supplier 3: thegioiic; Supplier 3 Part Number: N/A; Mount: SMD/SMT
footprint WE-PD2A_4532
pins: 1, 2

## 784773115
designator L?, comment 15uH, 1.2A
WE-PD2A SMT Power Inductor, size 4532, 15uH, 1.2A; Manufacturer Part Number: 784773115; Manufacturer: Wurth Elektronik; DC Resistance max.: 0.235Ohm; Saturation Current: 1.46A; Self Resonant Frequency: 27MHz; DC Resistance typ.: 0.204Ohm; Rated Voltage: 80VDC; ComponentLink1Description: Datasheet; ComponentLink1URL: https://www.we-online.com/catalog/datasheet/784773115.pdf; Published Date: May 2020; Rated Current: 1.2A; Inductance: 15uH; Operating Temperature: -40 to +125degC; Packaging: Tape and Reel; Size: 4532; Supplier 2 URL: https://www.digikey.com/en/products/detail/w%C3%BCrth-elektronik/784773115/5168850?s=N4IgTCBcDaIOwA4Asc4GYCMGCsIC6AvkA; Supplier 1 URL: https://www.mouser.vn/ProductDetail/Wurth-Elektronik/784773115?qs=sBf%2Fb4nBSlf%252Be0gXfR1Slw%3D%3D; Supplier 3 URL: N/A; Value: 15uH, 1.2A; LCSC Part #: N/A; Supplier 1: Mouser; Supplier 1 Part Number: 710-784773115; Supplier 2: Digi-Key; Supplier 2 Part Number: 732-6814-2-ND; Supplier 3: thegioiic; Supplier 3 Part Number: N/A; Mount: SMD/SMT
footprint WE-PD2A_4532
pins: 1, 2

## 784773118
designator L?, comment 18uH, 1.1A
WE-PD2A SMT Power Inductor, size 4532, 18uH, 1.1A; Manufacturer Part Number: 784773118; Manufacturer: Wurth Elektronik; DC Resistance max.: 0.338Ohm; Saturation Current: 1.29A; Self Resonant Frequency: 22MHz; DC Resistance typ.: 0.225Ohm; Rated Voltage: 80VDC; ComponentLink1Description: Datasheet; ComponentLink1URL: https://www.we-online.com/catalog/datasheet/784773118.pdf; Published Date: May 2020; Rated Current: 1.1A; Inductance: 18uH; Operating Temperature: -40 to +125degC; Packaging: Tape and Reel; Size: 4532; Supplier 2 URL: https://www.digikey.com/en/products/detail/w%C3%BCrth-elektronik/784773118/5168851?s=N4IgTCBcDaIOwA4Asc4GYCMGEgLoF8g; Supplier 1 URL: https://www.mouser.vn/ProductDetail/Wurth-Elektronik/784773118?qs=sBf%2Fb4nBSldB4lq3T1V5tg%3D%3D; Supplier 3 URL: N/A; Value: 18uH, 1.1A; LCSC Part #: N/A; Supplier 1: Mouser; Supplier 1 Part Number: 710-784773118; Supplier 2: Digi-Key; Supplier 2 Part Number: 732-6815-2-ND; Supplier 3: thegioiic; Supplier 3 Part Number: N/A; Mount: SMD/SMT
footprint WE-PD2A_4532
pins: 1, 2

## 784773122
designator L?, comment 22uH, 1A
WE-PD2A SMT Power Inductor, size 4532, 22uH, 1A; Manufacturer Part Number: 784773122; Manufacturer: Wurth Elektronik; DC Resistance max.: 0.37Ohm; Saturation Current: 1.22A; Self Resonant Frequency: 20MHz; DC Resistance typ.: 0.261Ohm; Rated Voltage: 80VDC; ComponentLink1Description: Datasheet; ComponentLink1URL: https://www.we-online.com/catalog/datasheet/784773122.pdf; Published Date: May 2020; Rated Current: 1A; Inductance: 22uH; Operating Temperature: -40 to +125degC; Packaging: Tape and Reel; Size: 4532; Supplier 2 URL: https://www.digikey.com/en/products/detail/w%C3%BCrth-elektronik/784773122/5168852?s=N4IgTCBcDaIOwA4Asc4GYCMYIF0C%2BQA; Supplier 1 URL: https://www.mouser.vn/ProductDetail/Wurth-Elektronik/784773122?qs=sBf%2Fb4nBSlcvmW779TjjSg%3D%3D; Supplier 3 URL: N/A; Value: 22uH, 1A; LCSC Part #: N/A; Supplier 1: Mouser; Supplier 1 Part Number: 710-784773122; Supplier 2: Digi-Key; Supplier 2 Part Number: 732-6816-2-ND; Supplier 3: thegioiic; Supplier 3 Part Number: N/A; Mount: SMD/SMT
footprint WE-PD2A_4532
pins: 1, 2

## 784773127
designator L?, comment 27uH, 0.94A
WE-PD2A SMT Power Inductor, size 4532, 27uH, 0.94A; Manufacturer Part Number: 784773127; Manufacturer: Wurth Elektronik; DC Resistance max.: 0.522Ohm; Saturation Current: 1A; Self Resonant Frequency: 17MHz; DC Resistance typ.: 0.328Ohm; Rated Voltage: 80VDC; ComponentLink1Description: Datasheet; ComponentLink1URL: https://www.we-online.com/catalog/datasheet/784773127.pdf; Published Date: May 2020; Rated Current: 0.94A; Inductance: 27uH; Operating Temperature: -40 to +125degC; Packaging: Tape and Reel; Size: 4532; Supplier 2 URL: https://www.digikey.com/en/products/detail/w%C3%BCrth-elektronik/784773127/5168853?s=N4IgTCBcDaIOwA4Asc4GYCMY4gLoF8g; Supplier 1 URL: https://www.mouser.vn/ProductDetail/Wurth-Elektronik/784773127?qs=sBf%2Fb4nBSldFrOzMksw2nQ%3D%3D; Supplier 3 URL: N/A; Value: 27uH, 0.94A; LCSC Part #: N/A; Supplier 1: Mouser; Supplier 1 Part Number: 710-784773127; Supplier 2: Digi-Key; Supplier 2 Part Number: 732-6817-2-ND; Supplier 3: thegioiic; Supplier 3 Part Number: N/A; Mount: SMD/SMT
footprint WE-PD2A_4532
pins: 1, 2

## 784773133
designator L?, comment 33uH, 0.86A
WE-PD2A SMT Power Inductor, size 4532, 33uH, 0.86A; Manufacturer Part Number: 784773133; Manufacturer: Wurth Elektronik; DC Resistance max.: 0.54Ohm; Saturation Current: 0.9A; Self Resonant Frequency: 16MHz; DC Resistance typ.: 0.37Ohm; Rated Voltage: 80VDC; ComponentLink1Description: Datasheet; ComponentLink1URL: https://www.we-online.com/catalog/datasheet/784773133.pdf; Published Date: May 2020; Rated Current: 0.86A; Inductance: 33uH; Operating Temperature: -40 to +125degC; Packaging: Tape and Reel; Size: 4532; Supplier 2 URL: https://www.digikey.com/en/products/detail/w%C3%BCrth-elektronik/784773133/5168854?s=N4IgTCBcDaIOwA4Asc4GYCMa0gLoF8g; Supplier 1 URL: https://www.mouser.vn/ProductDetail/Wurth-Elektronik/784773133?qs=sBf%2Fb4nBSldLFXm7e5FBgg%3D%3D; Supplier 3 URL: N/A; Value: 33uH, 0.86A; LCSC Part #: N/A; Supplier 1: Mouser; Supplier 1 Part Number: 710-784773133; Supplier 2: Digi-Key; Supplier 2 Part Number: 732-6818-2-ND; Supplier 3: thegioiic; Supplier 3 Part Number: N/A; Mount: SMD/SMT
footprint WE-PD2A_4532 (SMD Power Inductor, body 4.5x4mm)
pins: 1, 2

## 784773139
designator L?, comment 39uH, 0.77A
WE-PD2A SMT Power Inductor, size 4532, 39uH, 0.77A; Manufacturer Part Number: 784773139; Manufacturer: Wurth Elektronik; DC Resistance max.: 0.587Ohm; Saturation Current: 0.87A; Self Resonant Frequency: 15MHz; DC Resistance typ.: 0.418Ohm; Rated Voltage: 80VDC; ComponentLink1Description: Datasheet; ComponentLink1URL: https://www.we-online.com/catalog/datasheet/784773139.pdf; Published Date: May 2020; Rated Current: 0.77A; Inductance: 39uH; Operating Temperature: -40 to +125degC; Packaging: Tape and Reel; Size: 4532; Supplier 2 URL: https://www.digikey.com/en/products/detail/w%C3%BCrth-elektronik/784773139/5168855?s=N4IgTCBcDaIOwA4Asc4GYCMaCcIC6AvkA; Supplier 1 URL: https://www.mouser.vn/ProductDetail/Wurth-Elektronik/784773139?qs=sBf%2Fb4nBSleGlFolV50CBA%3D%3D; Supplier 3 URL: N/A; Value: 39uH, 0.77A; LCSC Part #: N/A; Supplier 1: Mouser; Supplier 1 Part Number: 710-784773139; Supplier 2: Digi-Key; Supplier 2 Part Number: 732-6819-2-ND; Supplier 3: thegioiic; Supplier 3 Part Number: N/A; Mount: SMD/SMT
footprint WE-PD2A_4532
pins: 1, 2

## 784773147
designator L?, comment 47uH, 0.68A
WE-PD2A SMT Power Inductor, size 4532, 47uH, 0.68A; Manufacturer Part Number: 784773147; Manufacturer: Wurth Elektronik; DC Resistance max.: 0.844Ohm; Saturation Current: 0.77A; Self Resonant Frequency: 12MHz; DC Resistance typ.: 0.523Ohm; Rated Voltage: 80VDC; ComponentLink1Description: Datasheet; ComponentLink1URL: https://www.we-online.com/catalog/datasheet/784773147.pdf; Published Date: May 2020; Rated Current: 0.68A; Inductance: 47uH; Operating Temperature: -40 to +125degC; Packaging: Tape and Reel; Size: 4532; Supplier 2 URL: https://www.digikey.com/en/products/detail/w%C3%BCrth-elektronik/784773147/5168856?s=N4IgTCBcDaIOwA4Asc4GYCMKQF0C%2BQA; Supplier 1 URL: https://www.mouser.vn/ProductDetail/Wurth-Elektronik/784773147?qs=sBf%2Fb4nBSle9kgx4I0M%252BSA%3D%3D; Supplier 3 URL: N/A; Value: 47uH, 0.68A; LCSC Part #: N/A; Supplier 1: Mouser; Supplier 1 Part Number: 710-784773147; Supplier 2: Digi-Key; Supplier 2 Part Number: 732-6820-2-ND; Supplier 3: thegioiic; Supplier 3 Part Number: N/A; Mount: SMD/SMT
footprint WE-PD2A_4532
pins: 1, 2

## 784773156
designator L?, comment 56uH, 0.64A
WE-PD2A SMT Power Inductor, size 4532, 56uH, 0.64A; Manufacturer Part Number: 784773156; Manufacturer: Wurth Elektronik; DC Resistance max.: 0.937Ohm; Saturation Current: 0.75A; Self Resonant Frequency: 12MHz; DC Resistance typ.: 0.714Ohm; Rated Voltage: 80VDC; ComponentLink1Description: Datasheet; ComponentLink1URL: https://www.we-online.com/catalog/datasheet/784773156.pdf; Published Date: May 2020; Rated Current: 0.64A; Inductance: 56uH; Operating Temperature: -40 to +125degC; Packaging: Tape and Reel; Size: 4532; Supplier 2 URL: https://www.digikey.com/en/products/detail/w%C3%BCrth-elektronik/784773156/5168857?s=N4IgTCBcDaIOwA4Asc4GYCMBWAbCAugL5A; Supplier 1 URL: https://www.mouser.vn/ProductDetail/Wurth-Elektronik/784773156?qs=sBf%2Fb4nBSleyP3AnWTna%252BQ%3D%3D; Supplier 3 URL: N/A; Value: 56uH, 0.64A; LCSC Part #: N/A; Supplier 1: Mouser; Supplier 1 Part Number: 710-784773156; Supplier 2: Digi-Key; Supplier 2 Part Number: 732-6821-2-ND; Supplier 3: thegioiic; Supplier 3 Part Number: N/A; Mount: SMD/SMT
footprint WE-PD2A_4532
pins: 1, 2

## 784773168
designator L?, comment 68uH, 0.56A
WE-PD2A SMT Power Inductor, size 4532, 68uH, 0.56A; Manufacturer Part Number: 784773168; Manufacturer: Wurth Elektronik; DC Resistance max.: 1.117Ohm; Saturation Current: 0.68A; Self Resonant Frequency: 11MHz; DC Resistance typ.: 0.754Ohm; Rated Voltage: 80VDC; ComponentLink1Description: Datasheet; ComponentLink1URL: https://www.we-online.com/catalog/datasheet/784773168.pdf; Published Date: May 2020; Rated Current: 0.56A; Inductance: 68uH; Operating Temperature: -40 to +125degC; Packaging: Tape and Reel; Size: 4532; Supplier 2 URL: https://www.digikey.com/en/products/detail/w%C3%BCrth-elektronik/784773168/5168858?s=N4IgTCBcDaIOwA4Asc4GYCMA2BIC6AvkA; Supplier 1 URL: https://www.mouser.vn/ProductDetail/Wurth-Elektronik/784773168?qs=sBf%2Fb4nBSle9WMcPwYFP2g%3D%3D; Supplier 3 URL: N/A; Value: 68uH, 0.56A; LCSC Part #: N/A; Supplier 1: Mouser; Supplier 1 Part Number: 710-784773168; Supplier 2: Digi-Key; Supplier 2 Part Number: 732-6822-2-ND; Supplier 3: thegioiic; Supplier 3 Part Number: N/A; Mount: SMD/SMT
footprint WE-PD2A_4532
pins: 1, 2


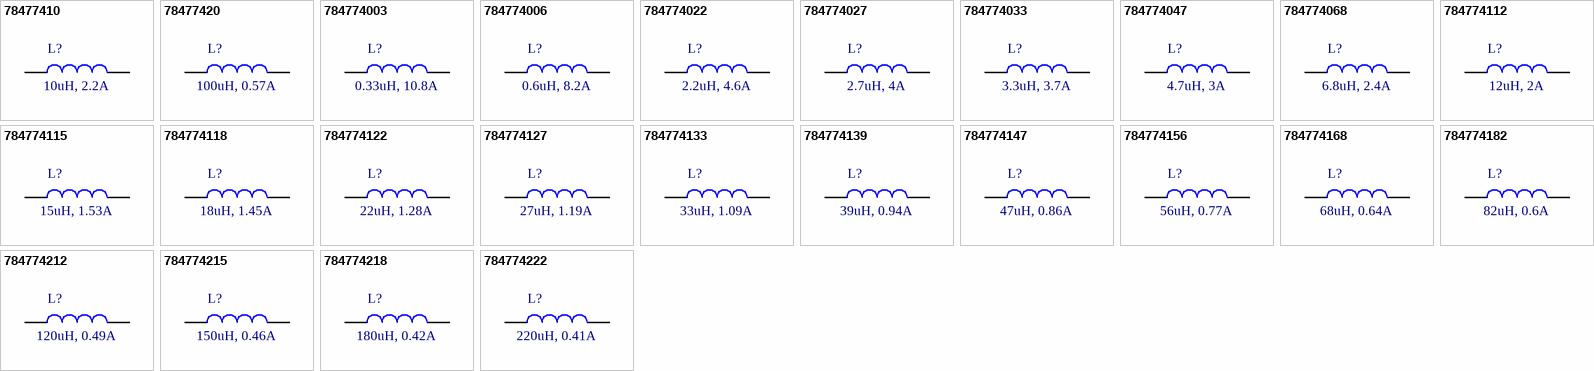
[diagram p2: symbols 78477410 to 784774222]

## 78477410
designator L?, comment 10uH, 2.2A
WE-PD2A SMT Power Inductor, size 5848, 10uH, 2.2A; Manufacturer Part Number: 78477410; Manufacturer: Wurth Elektronik; DC Resistance max.: 0.1Ohm; Saturation Current: 2.5A; Self Resonant Frequency: 26MHz; DC Resistance typ.: 0.078Ohm; Rated Voltage: 80VDC; ComponentLink1Description: Datasheet; ComponentLink1URL: https://www.we-online.com/catalog/datasheet/784774156.pdf; Published Date: May 2020; Rated Current: 2.2A; Inductance: 10uH; Operating Temperature: -40 to +125degC; Packaging: Tape and Reel; Size: 5848; Supplier 2 URL: https://www.digikey.com/en/products/detail/w%C3%BCrth-elektronik/78477410/5168779?s=N4IgTCBcDaIOwA4Asc5IIwAYQF0C%2BQA; Supplier 1 URL: https://www.mouser.vn/ProductDetail/Wurth-Elektronik/78477410?qs=sBf%2Fb4nBSldlX6CYaJExDg%3D%3D; Supplier 3 URL: https://www.thegioiic.com/cuon-cam-dan-smd-cd53-5852-100-10uh-1-8a; Value: 10uH, 2.2A; LCSC Part #: N/A; Mount: SMD/SMT; Supplier 1: Mouser; Supplier 1 Part Number: 710-78477410; Supplier 2: Digi-Key; Supplier 2 Part Number: 732-6830-2-ND; Supplier 3: thegioiic; Supplier 3 Part Number: N/A
footprint WE-PD2A_5848
pins: 1, 2

## 78477420
designator L?, comment 100uH, 0.57A
WE-PD2A SMT Power Inductor, size 5848, 100uH, 0.57A; Manufacturer Part Number: 78477420; Manufacturer: Wurth Elektronik; DC Resistance max.: 0.65Ohm; Saturation Current: 0.68A; Self Resonant Frequency: 7MHz; DC Resistance typ.: 0.51Ohm; Rated Voltage: 80VDC; ComponentLink1Description: Datasheet; ComponentLink1URL: https://www.we-online.com/catalog/datasheet/784774156.pdf; Published Date: May 2020; Rated Current: 0.57A; Inductance: 100uH; Operating Temperature: -40 to +125degC; Packaging: Tape and Reel; Size: 5848; Supplier 2 URL: https://www.digikey.com/en/products/detail/w%C3%BCrth-elektronik/78477420/5168780?s=N4IgTCBcDaIOwA4Asc5LABhAXQL5A; Supplier 1 URL: https://www.mouser.vn/ProductDetail/Wurth-Elektronik/78477420?qs=sBf%2Fb4nBSlcdU46whVu6%2FA%3D%3D; Supplier 3 URL: https://www.thegioiic.com/cuon-cam-dan-smd-cd53-5852-101-100uh-4-5a; Value: 100uH, 0.57A; LCSC Part #: N/A; Mount: SMD/SMT; Supplier 1: Mouser; Supplier 1 Part Number: 710-78477420; Supplier 2: Digi-Key; Supplier 2 Part Number: 732-6842-2-ND; Supplier 3: thegioiic; Supplier 3 Part Number: N/A
footprint WE-PD2A_5848
pins: 1, 2

## 784774003
designator L?, comment 0.33uH, 10.8A
WE-PD2A SMT Power Inductor, size 5848, 0.33uH, 10.8A; Manufacturer Part Number: 784774003; Manufacturer: Wurth Elektronik; DC Resistance max.: 0.008Ohm; Saturation Current: 15.3A; Self Resonant Frequency: 295MHz; DC Resistance typ.: 0.006Ohm; Rated Voltage: 80VDC; ComponentLink1Description: Datasheet; ComponentLink1URL: https://www.we-online.com/catalog/datasheet/784774156.pdf; Published Date: May 2020; Rated Current: 10.8A; Inductance: 0.33uH; Operating Temperature: -40 to +125degC; Packaging: Tape and Reel; Size: 5848; Supplier 2 URL: https://www.digikey.com/en/products/detail/w%C3%BCrth-elektronik/784774003/5168859?s=N4IgTCBcDaIOwA4Asc5IAzoMwgLoF8g; Supplier 1 URL: https://www.mouser.vn/ProductDetail/Wurth-Elektronik/784774003?qs=sBf%2Fb4nBSlfsz1qgrFR5cw%3D%3D; Supplier 3 URL: N/A; Value: 0.33uH, 10.8A; LCSC Part #: N/A; Mount: SMD/SMT; Supplier 1: Mouser; Supplier 1 Part Number: 710-784774003; Supplier 2: Digi-Key; Supplier 2 Part Number: 732-6823-2-ND; Supplier 3: thegioiic; Supplier 3 Part Number: N/A
footprint WE-PD2A_5848 (SMD Power Inductor, body 5.8x5.2mm)
pins: 1, 2

## 784774006
designator L?, comment 0.6uH, 8.2A
WE-PD2A SMT Power Inductor, size 5848, 0.6uH, 8.2A; Manufacturer Part Number: 784774006; Manufacturer: Wurth Elektronik; DC Resistance max.: 0.018Ohm; Saturation Current: 13.5A; Self Resonant Frequency: 210MHz; DC Resistance typ.: 0.009Ohm; Rated Voltage: 80VDC; ComponentLink1Description: Datasheet; ComponentLink1URL: https://www.we-online.com/catalog/datasheet/784774156.pdf; Published Date: May 2020; Rated Current: 8.2A; Inductance: 0.6uH; Operating Temperature: -40 to +125degC; Packaging: Tape and Reel; Size: 5848; Supplier 2 URL: https://www.digikey.com/en/products/detail/w%C3%BCrth-elektronik/784774006/5168860?s=N4IgTCBcDaIOwA4Asc5IAzoGwgLoF8g; Supplier 1 URL: https://www.mouser.vn/ProductDetail/Wurth-Elektronik/784774006?qs=sBf%2Fb4nBSld9EioUyJB1Lg%3D%3D; Supplier 3 URL: N/A; Value: 0.6uH, 8.2A; LCSC Part #: N/A; Mount: SMD/SMT; Supplier 1: Mouser; Supplier 1 Part Number: 710-784774006; Supplier 2: Digi-Key; Supplier 2 Part Number: 732-6824-2-ND; Supplier 3: thegioiic; Supplier 3 Part Number: N/A
footprint WE-PD2A_5848
pins: 1, 2

## 784774022
designator L?, comment 2.2uH, 4.6A
WE-PD2A SMT Power Inductor, size 5848, 2.2uH, 4.6A; Manufacturer Part Number: 784774022; Manufacturer: Wurth Elektronik; DC Resistance max.: 0.041Ohm; Saturation Current: 8.2A; Self Resonant Frequency: 54MHz; DC Resistance typ.: 0.026Ohm; Rated Voltage: 80VDC; ComponentLink1Description: Datasheet; ComponentLink1URL: https://www.we-online.com/catalog/datasheet/784774156.pdf; Published Date: May 2020; Rated Current: 4.6A; Inductance: 2.2uH; Operating Temperature: -40 to +125degC; Packaging: Tape and Reel; Size: 5848; Supplier 2 URL: https://www.digikey.com/en/products/detail/w%C3%BCrth-elektronik/784774022/5168861?s=N4IgTCBcDaIOwA4Asc5IAxggXQL5A; Supplier 1 URL: https://www.mouser.vn/ProductDetail/Wurth-Elektronik/784774022?qs=sBf%2Fb4nBSlfFQ39MxtOnjA%3D%3D; Supplier 3 URL: https://www.thegioiic.com/cuon-cam-dan-smd-cd53-5852-2r2-2-2uh-3-5a; Value: 2.2uH, 4.6A; LCSC Part #: N/A; Mount: SMD/SMT; Supplier 1: Mouser; Supplier 1 Part Number: 710-784774022; Supplier 2: Digi-Key; Supplier 2 Part Number: 732-6825-2-ND; Supplier 3: thegioiic; Supplier 3 Part Number: N/A
footprint WE-PD2A_5848
pins: 1, 2

## 784774027
designator L?, comment 2.7uH, 4A
WE-PD2A SMT Power Inductor, size 5848, 2.7uH, 4A; Manufacturer Part Number: 784774027; Manufacturer: Wurth Elektronik; DC Resistance max.: 0.045Ohm; Saturation Current: 8A; Self Resonant Frequency: 50MHz; DC Resistance typ.: 0.032Ohm; Rated Voltage: 80VDC; ComponentLink1Description: Datasheet; ComponentLink1URL: https://www.we-online.com/catalog/datasheet/784774156.pdf; Published Date: May 2020; Rated Current: 4A; Inductance: 2.7uH; Operating Temperature: -40 to +125degC; Packaging: Tape and Reel; Size: 5848; Supplier 2 URL: https://www.digikey.com/en/products/detail/w%C3%BCrth-elektronik/784774027/5168862?s=N4IgTCBcDaIOwA4Asc5IAxjiAugXyA; Supplier 1 URL: https://www.mouser.vn/ProductDetail/Wurth-Elektronik/784774027?qs=sBf%2Fb4nBSlfgMvNsCt7evg%3D%3D; Supplier 3 URL: https://www.thegioiic.com/cuon-cam-dan-smd-cd53-5852-2r7-2-7uh-3-2a; Value: 2.7uH, 4A; LCSC Part #: N/A; Mount: SMD/SMT; Supplier 1: Mouser; Supplier 1 Part Number: 710-784774027; Supplier 2: Digi-Key; Supplier 2 Part Number: 732-6826-2-ND; Supplier 3: thegioiic; Supplier 3 Part Number: N/A
footprint WE-PD2A_5848
pins: 1, 2

## 784774033
designator L?, comment 3.3uH, 3.7A
WE-PD2A SMT Power Inductor, size 5848, 3.3uH, 3.7A; Manufacturer Part Number: 784774033; Manufacturer: Wurth Elektronik; DC Resistance max.: 0.06Ohm; Saturation Current: 7.5A; Self Resonant Frequency: 43MHz; DC Resistance typ.: 0.042Ohm; Rated Voltage: 80VDC; ComponentLink1Description: Datasheet; ComponentLink1URL: https://www.we-online.com/catalog/datasheet/784774156.pdf; Published Date: May 2020; Rated Current: 3.7A; Inductance: 3.3uH; Operating Temperature: -40 to +125degC; Packaging: Tape and Reel; Size: 5848; Supplier 2 URL: https://www.digikey.com/en/products/detail/w%C3%BCrth-elektronik/784774033/5168863?s=N4IgTCBcDaIOwA4Asc5IAwGZMgLoF8g; Supplier 1 URL: https://www.mouser.vn/ProductDetail/Wurth-Elektronik/784774033?qs=sBf%2Fb4nBSldyuij1RzSGcA%3D%3D; Supplier 3 URL: https://www.thegioiic.com/cuon-cam-dan-smd-cd53-5852-3r3-3-3uh-2-8a; Value: 3.3uH, 3.7A; LCSC Part #: N/A; Mount: SMD/SMT; Supplier 1: Mouser; Supplier 1 Part Number: 710-784774033; Supplier 2: Digi-Key; Supplier 2 Part Number: 732-6827-2-ND; Supplier 3: thegioiic; Supplier 3 Part Number: N/A
footprint WE-PD2A_5848
pins: 1, 2

## 784774047
designator L?, comment 4.7uH, 3A
WE-PD2A SMT Power Inductor, size 5848, 4.7uH, 3A; Manufacturer Part Number: 784774047; Manufacturer: Wurth Elektronik; DC Resistance max.: 0.071Ohm; Saturation Current: 5.5A; Self Resonant Frequency: 33MHz; DC Resistance typ.: 0.056Ohm; Rated Voltage: 80VDC; ComponentLink1Description: Datasheet; ComponentLink1URL: https://www.we-online.com/catalog/datasheet/784774156.pdf; Published Date: May 2020; Rated Current: 3A; Inductance: 4.7uH; Operating Temperature: -40 to +125degC; Packaging: Tape and Reel; Size: 5848; Supplier 2 URL: https://www.digikey.com/en/products/detail/w%C3%BCrth-elektronik/784774047/5168864?s=N4IgTCBcDaIOwA4Asc5IAwpAXQL5A; Supplier 1 URL: https://www.mouser.vn/ProductDetail/Wurth-Elektronik/784774047?qs=sBf%2Fb4nBSld3fMFHG3nO%252Bw%3D%3D; Supplier 3 URL: https://www.thegioiic.com/cuon-cam-dan-smd-cd53-5852-4r7-4-7uh-2-5a; Value: 4.7uH, 3A; LCSC Part #: N/A; Mount: SMD/SMT; Supplier 1: Mouser; Supplier 1 Part Number: 710-784774047; Supplier 2: Digi-Key; Supplier 2 Part Number: 732-6828-2-ND; Supplier 3: thegioiic; Supplier 3 Part Number: N/A
footprint WE-PD2A_5848
pins: 1, 2

## 784774068
designator L?, comment 6.8uH, 2.4A
WE-PD2A SMT Power Inductor, size 5848, 6.8uH, 2.4A; Manufacturer Part Number: 784774068; Manufacturer: Wurth Elektronik; DC Resistance max.: 0.082Ohm; Saturation Current: 5A; Self Resonant Frequency: 28MHz; DC Resistance typ.: 0.071Ohm; Rated Voltage: 80VDC; ComponentLink1Description: Datasheet; ComponentLink1URL: https://www.we-online.com/catalog/datasheet/784774156.pdf; Published Date: May 2020; Rated Current: 2.4A; Inductance: 6.8uH; Operating Temperature: -40 to +125degC; Packaging: Tape and Reel; Size: 5848; Supplier 2 URL: https://www.digikey.com/en/products/detail/w%C3%BCrth-elektronik/784774068/5168865?s=N4IgTCBcDaIOwA4Asc5IAwDYEgLoF8g; Supplier 1 URL: https://www.mouser.vn/ProductDetail/Wurth-Elektronik/784774068?qs=sBf%2Fb4nBSlfEjoZazogbYQ%3D%3D; Supplier 3 URL: https://www.thegioiic.com/cuon-cam-dan-smd-cd53-5852-6r8-6-8uh-2-2a; Value: 6.8uH, 2.4A; LCSC Part #: N/A; Mount: SMD/SMT; Supplier 1: Mouser; Supplier 1 Part Number: 710-784774068; Supplier 2: Digi-Key; Supplier 2 Part Number: 732-6829-2-ND; Supplier 3: thegioiic; Supplier 3 Part Number: N/A
footprint WE-PD2A_5848
pins: 1, 2